# EAGLE library part M701-330442 (library Connectors)
CONN RCPT USB2.0 TYPEB 4POS VERT Manufacturer's datasheet <https://cdn.harwin.com/pdfs/M701-330442.pdf>
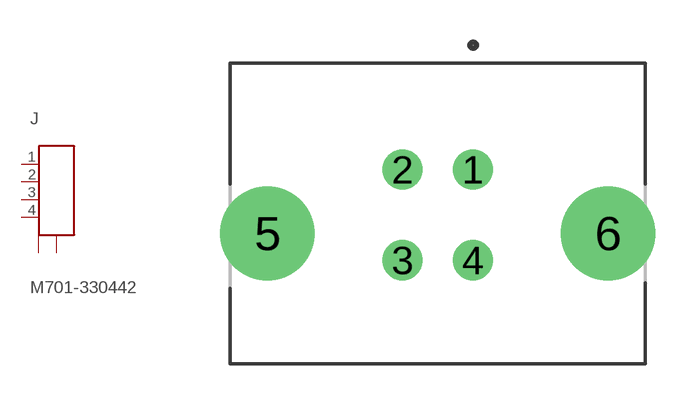
[diagram p15: symbol with the pads of M701-330442; footprint M701-330442]

Designator prefix J

## M701-330442 (CREATED_BY: PCBLayout.com; DIGIKEY_PART_NUMBER: 952-1767-ND; MANUFACTURER: Harwin Inc.; MPN: M701-330442)  [M701-330442]
1  1  pas
2  2  pas
3  3  pas
4  4  pas
5  S1  pas
6  S2  pas

## Footprint M701-330442 (pad centres in mm)
drill 0.914 pad 1.397: 1 1.245,1.6; 2 -1.245,1.6; 3 -1.245,-1.6; 4 1.245,-1.6
drill 2.311 pad 2.997: 5 -6.02,-0.66; 6 6.02,-0.66